# Altium footprint library CAP DIA12.5mm.PcbLib: 1 footprints
Each footprint in its own frame and in the unit in brackets; x right, y up, seen from the top. Pads: shape width x height; smd on the part's side, far side on the other; paste and mask are expansions set on the pad; w line width, h text height; cw(c..) or ccw(c..) is an arc to the next point about the centre after c.
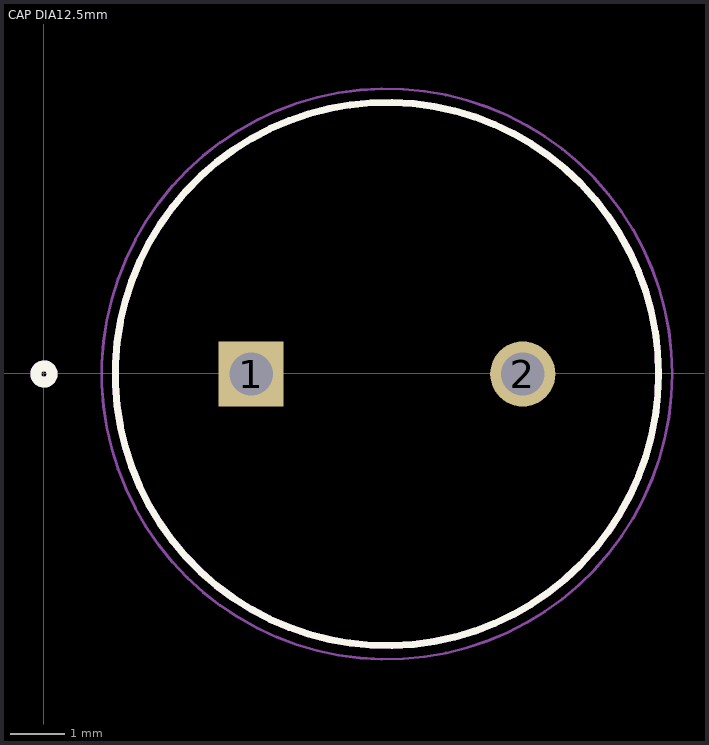
[diagram p0: the footprint, top view; thin cyan lines are the x and y axes]

## CAP DIA12.5mm [mm] "Polarized Aluminum Electrolytic Capacitors, through hole, diameter 12.5mm"
height 21.5
pads (2):
  rect 1.2x1.2 hole 0.8: 1(3.819,-0.012)
  round 1.2 hole 0.8: 2(8.819,-0.012)
Top Overlay:
  circle w0.2: c0.007,-0.012 r0.15
  circle w0.2: c0.007,-0.012 r0.15
  circle w0.127: c6.319,-0.012 r5
Mechanical 13:
  circle w0.2: c0.007,-0.012 r0.15
  circle w0.127: c6.319,-0.012 r5
  circle w0.2: c0.007,-0.012 r0.15
  circle w0.127: c6.319,-0.012 r5
Mechanical 15:
  circle w0.05: c6.319,-0.012 r5.25